# Altium footprint library POWER.PcbLib: 13 footprints
Each footprint in its own frame and in the unit in brackets; x right, y up, seen from the top. Pads: shape width x height; smd on the part's side, far side on the other; paste and mask are expansions set on the pad; w line width, h text height; cw(c..) or ccw(c..) is an arc to the next point about the centre after c.
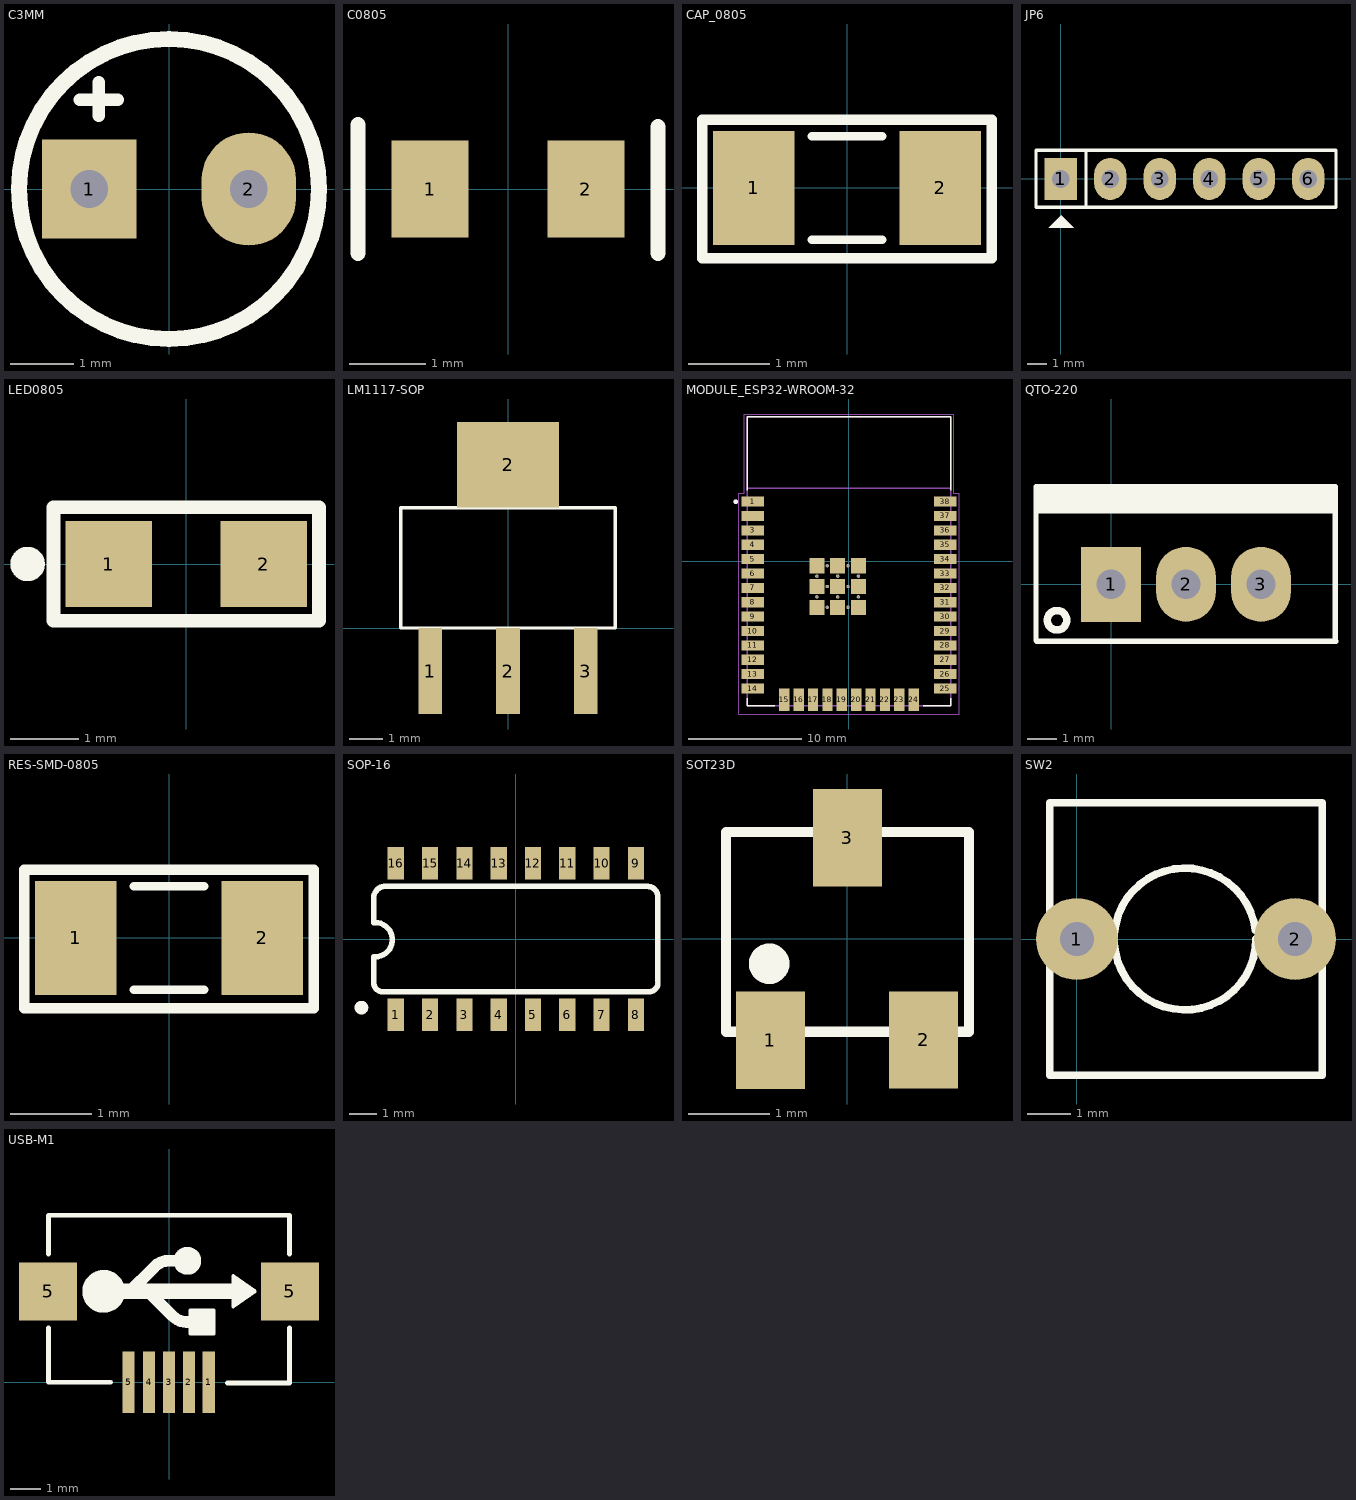
[diagram p0: the footprints below, top view; thin cyan lines are the x and y axes]

## C3MM [mm]
pads (2):
  rect 1.5x1.58 hole 0.6: 1(-1.27,0)
  oval 1.5x1.8 hole 0.6: 2(1.27,0)
Top Overlay:
  circle w0.254: c0,0 r2.388
  lines w0.2: -1.422,1.422 -0.813,1.422 ; -1.118,1.168 -1.118,1.702
3D body "User Library-Capacitor Radial Electrolitic-150-400x700.step": height 7.01, standoff -2.7, extent -2,-2.025 1.993,1.975

## C0805 [mm]
pads (2):
  rect 1x1.27 smd: 1(-1.016,0) 2(1.016,0)
Top Overlay:
  lines w0.2: -1.956,-0.838 -1.956,0.838 ; 1.956,-0.838 1.956,0.813
3D body "User Library-0805 SMD Capacitor.step": height 0.78, standoff 0, extent -1,-0.625 1,0.625

## CAP_0805 [mil]
pads (2):
  rect 39.37x55 smd: 1(-45,0) 2(45,0)
Top Overlay:
  lines w4: -17,-25 17,-25 ; -17,25 17,25
  lines w5: -70,-34 -70,33 70,33 70,-34 -70,-34
3D body "SW3dPS-smt_resistor_packages.STEP": height 24.02, standoff -0.39, extent -39.76,-25 39.77,25

## JP6 [mil]
pads (6):
  rect 65x85 hole 36: 1(0,0)
  oval 65x85 hole 36: 2(100,0) 3(200,0) 4(300,0) 5(400,0) 6(500,0)
Top Overlay:
  region: 1,-74 -24,-99 26,-99
  lines w7: 51,-57 51,56 ; -50,-57 -50,58 556,58 556,-57 -50,-57
3D body "JP1-6.stp": height 323.43, standoff -117.51, extent -48.03,-50 548.03,48.43

## LED0805 [mil]
pads (2):
  rect 50x50 smd: 1(-45,0) 2(45,0)
Top Overlay:
  circle w10: c-92,0 r5
  lines w7.87: 77,32 77,-33 -77,-33 -77,33 77,33
3D body: height 47.24, standoff 19.68, extent -35,-25 35,25
3D body: height 19.68, standoff 0, extent -60,-25 60,25

## LM1117-SOP [mm]
pads (4):
  rect 0.7x2.54 smd: 1(-2.3,-1.27) 2(0,-1.27) 3(2.3,-1.27)
  rect 3x2.54 smd: 2(0,4.826)
Top Overlay:
  lines w0.1: -3.175,0 3.175,0 3.175,3.556 -3.175,3.556 -3.175,0
3D body "SW3DPS-SOT-223-DEFAULT.step": height 1.68, standoff 0, extent -3.25,-1.778 3.25,5.182

## MODULE_ESP32-WROOM-32 [mm]
pads (59):
  rect 2x0.9 smd: 1(-8.5,5.26) 3(-8.5,2.72) 4(-8.5,1.45) 5(-8.5,0.18) 6(-8.5,-1.09) 7(-8.5,-2.36) 8(-8.5,-3.63) 9(-8.5,-4.9) 10(-8.5,-6.17) 11(-8.5,-7.44) 12(-8.5,-8.71) 13(-8.5,-9.98) 14(-8.5,-11.25) 25(8.5,-11.25) 26(8.5,-9.98) 27(8.5,-8.71) 28(8.5,-7.44) 29(8.5,-6.17) 30(8.5,-4.9) 31(8.5,-3.63) 32(8.5,-2.36) 33(8.5,-1.09) 34(8.5,0.18) 35(8.5,1.45) 36(8.5,2.72) 37(8.5,3.99) 38(8.5,5.26) "                                                                                                                                         "(-8.5,3.99)
  rect 0.9x2 smd: 15(-5.715,-12.25) 16(-4.445,-12.25) 17(-3.175,-12.25) 18(-1.905,-12.25) 19(-0.635,-12.25) 20(0.635,-12.25) 21(1.905,-12.25) 22(3.175,-12.25) 23(4.445,-12.25) 24(5.715,-12.25)
  rect 1.33x1.33 smd: 39_1(-2.835,-0.405) 39_2(-1,-0.405) 39_3(0.835,-0.405) 39_4(-2.835,-2.24) 39_5(-1,-2.24) 39_6(0.835,-2.24) 39_7(-2.835,-4.075) 39_8(-1,-4.075) 39_9(0.835,-4.075)
  round 0.3 hole 0.2: 39_10(-1.917,-0.405) 39_11(-0.082,-0.405) 39_12(-2.835,-1.323) 39_13(-1,-1.323) 39_14(0.835,-1.323) 39_15(-1.917,-2.24) 39_16(-0.082,-2.24) 39_17(-2.835,-3.158) 39_18(-1,-3.158) 39_19(0.835,-3.158) 39_20(-1.917,-4.075) 39_21(-0.082,-4.075)
Top Overlay:
  circle w0.2: c-10,5.25 r0.1
  lines w0.127: -9,-12.1 -9,-12.75 -6.55,-12.75 ; -9,6.25 -9,12.75 9,12.75 9,6.25 ; 6.55,-12.75 9,-12.75 9,-12.1
Mechanical 13:
  circle w0.2: c-10,5.25 r0.1
  lines w0.127: -9,6.45 9,6.45 ; -9,6.45 -9,12.75 9,12.75 9,6.45 ; -9,6.45 -9,-12.75 9,-12.75 9,6.45
  text "ANTENNA" at -6,9 h0.76
Mechanical 15:
  lines w0.05: -9.75,-13.5 -9.75,6 -9.25,6 -9.25,13 9.25,13 9.25,6 9.75,6 9.75,-13.5 -9.75,-13.5
3D body "ESP32-WROOM-32.STEP": height 3.2, standoff 0, extent -9.017,-12.75 8.983,12.75

## QTO-220 [mil]
pads (3):
  rect 80x100 hole 39: 1(0,0)
  oval 80x100 hole 39: 2(100,0) 3(200,0)
Top Overlay:
  circle w10: c-72.03,-48 r12.97
  rectangle: -99,94 300,130
  lines w7: 298,107 299,93 ; -100,-75 -99,-76 -76,-76 300,-76 299,-75 299,130 -100,130 -100,-75
3D body "SW3dPS-TO220AB.STEP": height 754.72, standoff -400, extent -119,-64 322.46,120.65

## RES-SMD-0805 [mm]
pads (2):
  rect 1x1.397 smd: 1(-1.143,0) 2(1.143,0)
Top Overlay:
  lines w0.102: -0.432,-0.635 0.432,-0.635 ; -0.432,0.635 0.432,0.635
  lines w0.127: -1.778,-0.864 1.778,-0.864 1.778,0.838 -1.778,0.838 -1.778,-0.864
3D body "SW3dPS-0805 SMD Resistor.STEP": height 0.8, standoff 0.02, extent -1,-0.625 1,0.625

## SOP-16 [mm]
pads (16):
  rect 0.6x1.2 smd: 1(-4.445,-2.8) 2(-3.175,-2.8) 3(-1.905,-2.8) 4(-0.635,-2.8) 5(0.635,-2.8) 6(1.905,-2.8) 7(3.175,-2.8) 8(4.445,-2.8) 9(4.445,2.8) 10(3.175,2.8) 11(1.905,2.8) 12(0.635,2.8) 13(-0.635,2.8) 14(-1.905,2.8) 15(-3.175,2.8) 16(-4.445,2.8)
Top Overlay:
  circle w0.254: c-5.715,-2.54 r0.127
  lines w0.203: -5.257,-1.668 ccw(c-4.927,-1.615) -4.874,-1.946 ; -5.258,-1.665 -5.258,-0.66 ; -5.258,0.61 -5.258,1.453 ; -5.257,1.463 cw(c-4.827,1.515) -4.88,1.946 ; -5.207,-0.66 ccw(c-5.207,-0.025) -5.207,0.61 ; -4.877,-1.946 4.977,-1.946 ; -4.877,1.946 4.877,1.946 cw(c4.877,1.565) 5.258,1.565 5.258,-1.565 ; 4.979,-1.946 ccw(c4.927,-1.615) 5.257,-1.563
Mechanical 13:
  region: -4.191,-3.302 -4.699,-3.302 -4.699,-2.273 -4.191,-2.273
  region: -2.921,-3.302 -3.429,-3.302 -3.429,-2.273 -2.921,-2.273
  region: -1.651,-3.302 -2.159,-3.302 -2.159,-2.273 -1.651,-2.273
  region: -0.381,-3.302 -0.889,-3.302 -0.889,-2.273 -0.381,-2.273
  region: 0.889,-3.302 0.381,-3.302 0.381,-2.273 0.889,-2.273
  region: 2.159,-3.302 1.651,-3.302 1.651,-2.273 2.159,-2.273
  region: 3.429,-3.302 2.921,-3.302 2.921,-2.273 3.429,-2.273
  region: 4.699,-3.302 4.191,-3.302 4.191,-2.273 4.699,-2.273
  region: -4.191,2.286 -4.699,2.286 -4.699,3.365 -4.191,3.365
  region: -2.921,2.286 -3.429,2.286 -3.429,3.302 -2.921,3.302
  region: -1.651,2.286 -2.159,2.286 -2.159,3.302 -1.651,3.302
  region: -0.381,2.286 -0.889,2.286 -0.889,3.302 -0.381,3.302
  region: 0.889,2.286 0.381,2.286 0.381,3.302 0.889,3.302
  region: 2.159,2.286 1.651,2.286 1.651,3.302 2.159,3.302
  region: 3.429,2.286 2.921,2.286 2.921,3.302 3.429,3.302
  region: 4.699,2.286 4.191,2.286 4.191,3.302 4.699,3.302
3D body: height 1.75, standoff 0, extent -4.95,-1.95 4.95,1.95
3D body: height 0.2, standoff 0, extent -4.697,-3.475 -4.204,-2.779
3D body: height 0.9, standoff 0, extent -4.697,-2.779 -4.204,-2.454
3D body: height 0.9, standoff 0.7, extent -4.697,-2.454 -4.204,-1.415
3D body: height 0.9, standoff 0.7, extent -3.427,-2.454 -2.934,-1.415
3D body: height 0.9, standoff 0, extent -3.427,-2.779 -2.934,-2.454
3D body: height 0.2, standoff 0, extent -3.427,-3.475 -2.934,-2.779
3D body: height 0.2, standoff 0, extent -0.887,-3.475 -0.394,-2.779
3D body: height 0.9, standoff 0, extent -0.887,-2.779 -0.394,-2.454
3D body: height 0.9, standoff 0.7, extent -0.887,-2.454 -0.394,-1.415
3D body: height 0.9, standoff 0.7, extent -2.157,-2.454 -1.664,-1.415
3D body: height 0.9, standoff 0, extent -2.157,-2.779 -1.664,-2.454
3D body: height 0.2, standoff 0, extent -2.157,-3.475 -1.664,-2.779
3D body: height 0.2, standoff 0, extent 1.653,-3.475 2.146,-2.779
3D body: height 0.9, standoff 0, extent 1.653,-2.779 2.146,-2.454
3D body: height 0.9, standoff 0.7, extent 1.653,-2.454 2.146,-1.415
3D body: height 0.9, standoff 0.7, extent 0.383,-2.454 0.876,-1.415
3D body: height 0.9, standoff 0, extent 0.383,-2.779 0.876,-2.454
3D body: height 0.2, standoff 0, extent 0.383,-3.475 0.876,-2.779
3D body: height 0.2, standoff 0, extent 4.193,-3.475 4.686,-2.779
3D body: height 0.9, standoff 0, extent 4.193,-2.779 4.686,-2.454
3D body: height 0.9, standoff 0.7, extent 4.193,-2.454 4.686,-1.415
3D body: height 0.9, standoff 0.7, extent 2.923,-2.454 3.416,-1.415
3D body: height 0.9, standoff 0, extent 2.923,-2.779 3.416,-2.454
3D body: height 0.2, standoff 0, extent 2.923,-3.475 3.416,-2.779
3D body: height 0.2, standoff 0, extent -3.416,2.779 -2.924,3.475
3D body: height 0.9, standoff 0, extent -3.416,2.454 -2.924,2.779
3D body: height 0.9, standoff 0.7, extent -3.416,1.415 -2.924,2.454
3D body: height 0.9, standoff 0.7, extent -4.686,1.415 -4.194,2.454
3D body: height 0.9, standoff 0, extent -4.686,2.454 -4.194,2.779
3D body: height 0.2, standoff 0, extent -4.686,2.779 -4.194,3.475
3D body: height 0.2, standoff 0, extent -0.876,2.779 -0.384,3.475
3D body: height 0.9, standoff 0, extent -0.876,2.454 -0.384,2.779
3D body: height 0.9, standoff 0.7, extent -0.876,1.415 -0.384,2.454
3D body: height 0.9, standoff 0.7, extent -2.146,1.415 -1.654,2.454
3D body: height 0.9, standoff 0, extent -2.146,2.454 -1.654,2.779
3D body: height 0.2, standoff 0, extent -2.146,2.779 -1.654,3.475
3D body: height 0.2, standoff 0, extent 1.664,2.779 2.156,3.475
3D body: height 0.9, standoff 0, extent 1.664,2.454 2.156,2.779
3D body: height 0.9, standoff 0.7, extent 1.664,1.415 2.156,2.454
3D body: height 0.9, standoff 0.7, extent 0.394,1.415 0.886,2.454
3D body: height 0.9, standoff 0, extent 0.394,2.454 0.886,2.779
3D body: height 0.2, standoff 0, extent 0.394,2.779 0.886,3.475
3D body: height 0.2, standoff 0, extent 2.934,2.779 3.426,3.475
3D body: height 0.9, standoff 0, extent 2.934,2.454 3.426,2.779
3D body: height 0.9, standoff 0.7, extent 2.934,1.415 3.426,2.454
3D body: height 0.9, standoff 0.7, extent 4.204,1.415 4.696,2.454
3D body: height 0.9, standoff 0, extent 4.204,2.454 4.696,2.779
3D body: height 0.2, standoff 0, extent 4.204,2.779 4.696,3.475

## SOT23D [mm]
pads (3):
  rect 0.85x1.2 smd: 1(-0.95,-1.25) 2(0.94,-1.245) 3(0,1.25)
Top Overlay:
  circle w0.25: c-0.965,-0.305 r0.125
  lines w0.127: -1.499,-1.143 -1.499,1.321 1.499,1.321 1.499,-1.143 -1.499,-1.143
3D body "SW3DPS-SOT-23-DEFAULT.STEP": height 1.06, standoff -0.04, extent -1.5,-1.174 1.5,1.326

## SW2 [mil]
pads (2):
  round 75 hole 31: 1(0,0) 2(200,0)
Top Overlay:
  lines w7: 163.64,8.26 ccw(c99.17,0) 164.17,0 ; -25,-125 225,-125 225,125 -25,125 -25,-125

## USB-M1 [mm]
pads (7):
  rect 0.4x2 smd: 1(1.3,0) 2(0.65,0) 3(0,0) 4(-0.65,0) 5(-1.321,0)
  rect 1.9x1.9 smd: 5(-3.95,2.968) 5(3.95,2.968)
Top Overlay:
  circle w0.889: c-2.136,2.972 r0.254
  circle w0.508: c0.598,3.968 r0.2
  region: 2.799,2.972 2.099,2.472 2.099,3.472
  region: 1.449,1.597 0.699,1.597 0.698,2.347 1.449,2.347
  lines w0.127: 0.698,1.597 0.698,2.347 1.448,2.347 1.448,1.597 0.698,1.597 ; 2.098,2.472 2.799,2.972 2.098,3.472 2.098,2.472
  lines w0.152: -3.937,1.773 -3.937,0 -1.905,0 ; -3.937,4.187 -3.937,5.461 3.937,5.461 3.937,4.187 ; 1.905,-0.025 3.937,-0.025 3.937,1.773
  lines w0.381: -1.342,2.907 -0.469,3.78 ; -0.627,2.909 0.123,2.159 ccw(c0.575,2.612) 0.575,1.972 1.079,1.972 ; -0.469,3.78 cw(c-0.016,3.327) -0.016,3.968 0.571,3.968
  lines w0.508: -2.096,2.972 2.349,2.972
3D body "Micro USB.STP": height 2.71, standoff -0.23, extent -3.977,0.115 4.003,5.545